# EAGLE library part ADAFRUIT_10DOF (library CANSat)
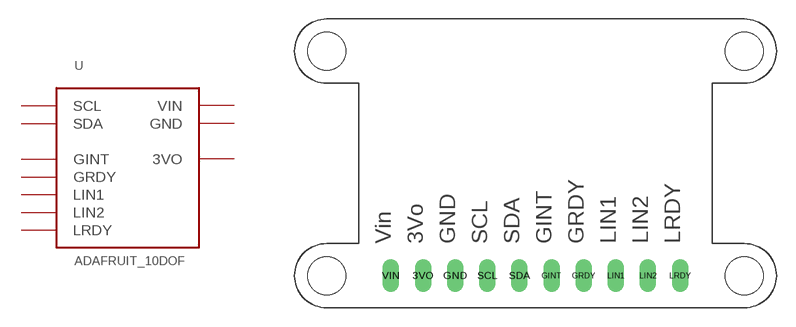
[diagram p1: symbol with the pads of ADAFRUIT_10DOF; footprint ADAFRUIT_10DOF]

Designator prefix -

## ADAFRUIT_10DOF  [ADAFRUIT_10DOF]
3VO  3VO  pwr
GINT  GINT
GND  GND  pwr
GRDY  GRDY
LIN1  LIN1
LIN2  LIN2
LRDY  LRDY
SCL  SCL
SDA  SDA
VIN  VIN  pwr

## Footprint ADAFRUIT_10DOF (pad centres in mm)
drill 0.8 long: 3VO -8.89,-8.89; GINT 1.27,-8.89; GND -6.35,-8.89; GRDY 3.81,-8.89; LIN1 6.35,-8.89; LIN2 8.89,-8.89; LRDY 11.43,-8.89; SCL -3.81,-8.89; SDA -1.27,-8.89; VIN -11.43,-8.89
hole 3 at -16.51,8.89
hole 3 at -16.51,-8.89
hole 3 at 16.51,-8.89
hole 3 at 16.51,8.89